# Altium footprint library MCU_Antenna_Related.PcbLib: 2 footprints
Each footprint in its own frame and in the unit in brackets; x right, y up, seen from the top. Pads: shape width x height; smd on the part's side, far side on the other; paste and mask are expansions set on the pad; w line width, h text height; cw(c..) or ccw(c..) is an arc to the next point about the centre after c.
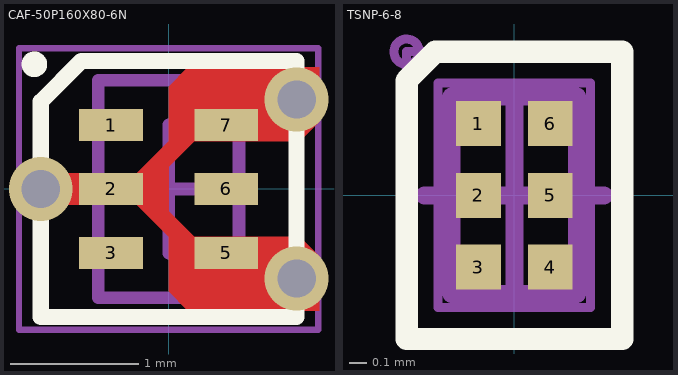
[diagram p0: the footprints below, top view; thin cyan lines are the x and y axes]

## CAF-50P160X80-6N [mm]
pads (6):
  rect 0.5x0.25 smd mask+0.08: 1(-0.45,0.5) 2(-0.45,0) 3(-0.45,-0.5) 5(0.45,-0.5) 6(0.45,0) 7(0.45,0.5)
via 1,-0.7 diameter 0.5 hole 0.3
via 1,0.7 diameter 0.5 hole 0.3
via -1,0 diameter 0.5 hole 0.3
Top Layer:
  region: 1.025,0.375 0.2,0.375 0,0.175 0,-0.175 0.2,-0.375 1.025,-0.375 1.175,-0.525 1.175,-0.95 0.15,-0.95 0,-0.8 0,-0.375 -0.25,-0.125 -0.8,-0.125 -0.9,-0.225 -1,-0.225 -1,0.225 -0.9,0.225 -0.8,0.125 -0.25,0.125 0,0.375 0,0.8 0.15,0.95 1.175,0.95 1.175,0.525
Top Overlay:
  circle w0.1: c-1.05,0.975 r0.05
  lines w0.127: -1,-1 1,-1 1,1 -0.683,1 -1,0.683 -1,-1
Mechanical 13:
  lines w0.1: -0.55,-0.85 -0.55,0.85 0.55,0.85 0.55,-0.85 -0.55,-0.85
Mechanical 15:
  lines w0.05: -1.17,-1.1 -1.17,1.1 1.17,1.1 1.17,-1.1 -1.17,-1.1
  lines w0.1: -0.5,0 0.5,0 ; 0,-0.5 0,0.5
3D body: height 0.7, standoff 0, extent -0.087,0.725 0.088,0.875
3D body: height 0.7, standoff 0, extent -0.087,-0.875 0.088,-0.725
3D body: height 0.7, standoff 0.5, extent -0.087,0.15 0.088,0.45
3D body "CAF-50P160X80-6N.step": height 0.7, standoff 0, extent -0.525,-0.85 0.475,0.85

## TSNP-6-8 [mm]
pads (6):
  rect 0.25x0.25 smd paste-0.03 mask+0.08: 1(-0.2,0.4) 2(-0.2,0) 3(-0.2,-0.4) 4(0.2,-0.4) 5(0.2,0) 6(0.2,0.4)
Top Overlay:
  lines w0.125: -0.6,-0.8 -0.6,0.639 -0.439,0.8 0.6,0.8 0.6,-0.8 -0.6,-0.8
Mechanical 7:
  circle w0.05: c-0.6,0.8 r0.071
  lines w0.05: -0.425,-0.625 0.425,-0.625 0.425,0.625 -0.425,0.625 -0.425,-0.625
  text ".Designator" at -0.094,1.469 h0.3
Mechanical 13:
  lines w0.1: -0.35,-0.55 0.35,-0.55 0.35,0.55 -0.35,0.55 -0.35,-0.55
Mechanical 15:
  lines w0.05: -0.6,-0.8 0.6,-0.8 0.6,0.8 -0.6,0.8 -0.6,-0.8
  lines w0.1: -0.5,0 0.5,0 ; 0,-0.5 0,0.5
3D body "LGA6C40P2X3_70X110X38.step": height 0.38, standoff 0, extent -0.375,-0.575 0.375,0.575